# Altium schematic symbol library Connectors.SchLib: 47 symbols
Pins are listed as number, name and electrical type; pins without a type are passive.

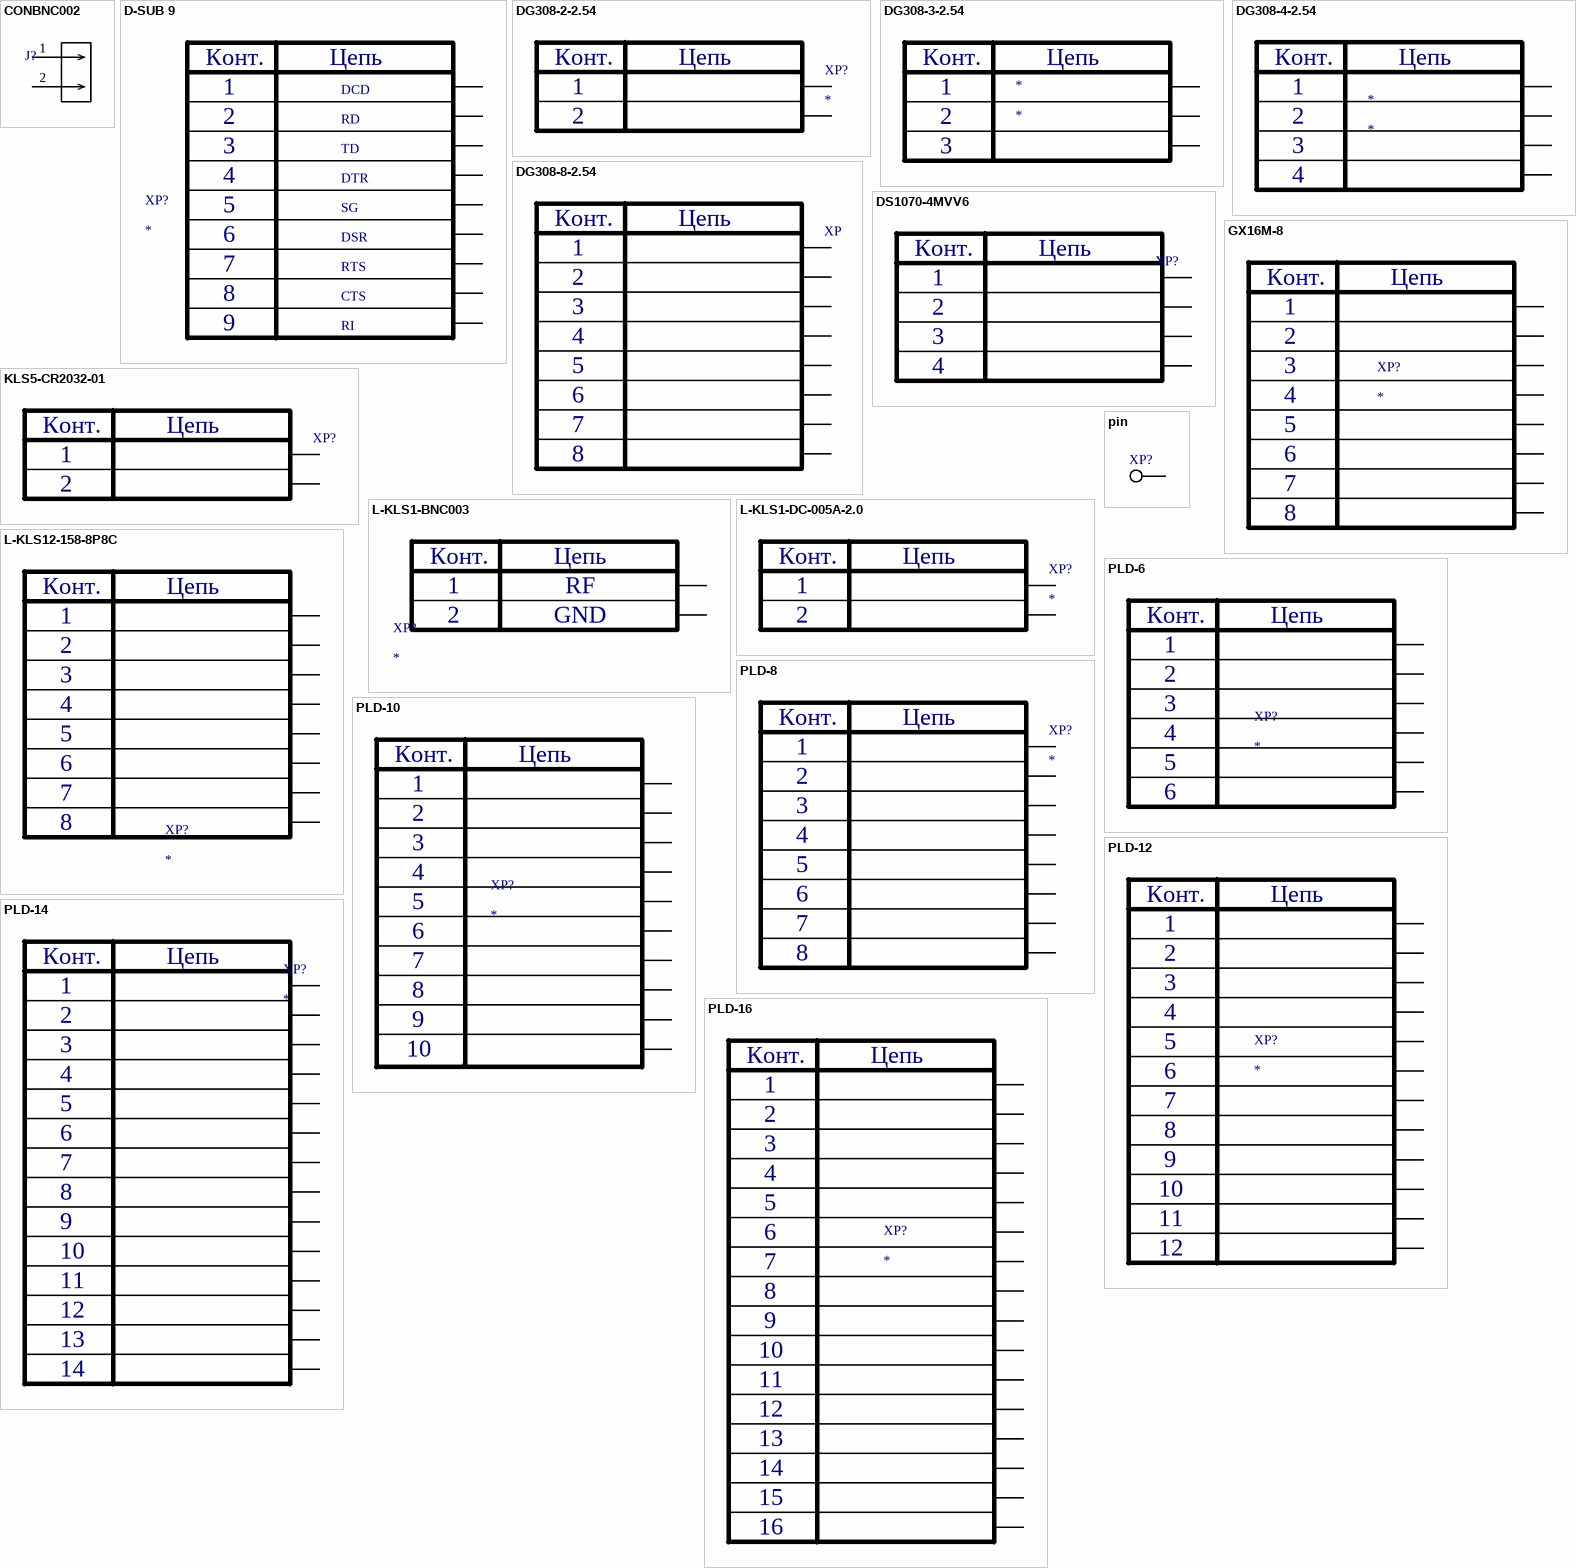
[diagram p0: symbols CONBNC002 to PLD-16]

## CONBNC002
designator J?
footprint CONBNC002
pins: 1, 2

## D-SUB 9
designator XP?
Разъем D-SUB на 9 пинов
footprint DRB-9 (Разъем под D-SUB на 9 пинов угловой)
footprint DBB-9 (Разъем под D-SUB на 9 пинов прямой)
pins: 1, 2, 3, 4, 5 6, 6 2, 7 3, 8 4, 9 4
text: Конт.; Цепь; DCD; RD; TD; DTR; SG; DSR; RTS; CTS; RI

## DG308-2-2.54
designator XP?
footprint DG308-2-2.54
pins: 1, 2
text: Конт.; Цепь

## DG308-3-2.54
designator *
pins: 1, 2, 3
text: Конт.; Цепь

## DG308-4-2.54
designator *
pins: 1, 2, 3, 4
text: Конт.; Цепь

## DG308-8-2.54
designator XP  (value not drawn)
footprint DG308-8-2.54
pins: 1, 2, 3, 4, 5 6, 6 2, 7 3, 8 4
text: Конт.; Цепь

## DS1070-4MVV6
designator XP?  (value not drawn)
footprint DS1070-4MVV6
pins: 1, 2, 3, 4
text: Конт.; Цепь

## GX16M-8
designator XP?
footprint GX16M-8
pins: 1, 2, 3, 4, 5 6, 6 2, 7 3, 8 4
text: Конт.; Цепь

## KLS5-CR2032-01
designator XP?  (value not drawn)
footprint KLS5-CR2032-01
pins: 1, 2
text: Конт.; Цепь

## L-KLS1-BNC003
designator XP?
footprint L-KLS1-BNC003
pins: 1, 2
text: Конт.; Цепь; RF; GND

## L-KLS1-DC-005A-2.0
designator XP?
footprint L-KLS1-DC-005A-2.0
pins: 1, 2
text: Конт.; Цепь

## L-KLS12-158-8P8C
designator XP?
footprint L-KLS12-158-8P8C
pins: 1, 2, 3, 4, 5 6, 6 2, 7 3, 8 4
text: Конт.; Цепь

## pin
designator XP?  (value not drawn)
footprint pin0,6
footprint PlaneTop 2x2
footprint pin1,0
footprint pin2,0
footprint wide_planetop_1mm
footprint Pin
pins: 1

## PLD-6
designator XP?
footprint PLD-6
pins: 1, 2, 3, 4, 5 6, 6 2
text: Конт.; Цепь

## PLD-8
designator XP?
footprint PLD-8
pins: 1, 2, 3, 4, 5 6, 6 2, 7 3, 8 4
text: Конт.; Цепь

## PLD-10
designator XP?
footprint PLD-10
pins: 1, 2, 3, 4, 5, 6 2, 7 3, 8 3, 9 3, 10 3
text: Конт.; Цепь

## PLD-12
designator XP?
footprint PLD-12
pins: 1, 2, 3, 4, 5, 6 2, 7 3, 8 3, 9 3, 10 3, 11 3, 12 3
text: Конт.; Цепь

## PLD-14
designator XP?
Order: *
footprint PLD14
pins: 1, 2, 3, 4, 5 6, 6 2, 7 3, 8 4, 9 1, 10 2, 11 3, 12 4, 13 1, 14 2
text: Конт.; Цепь

## PLD-16
designator XP?
footprint PLD-16
pins: 1, 2, 3, 4, 5, 6 2, 7 3, 8 3, 9 3, 10 3, 11 3, 12 3, 13 3, 14 3, 15 3, 16 3
text: Конт.; Цепь

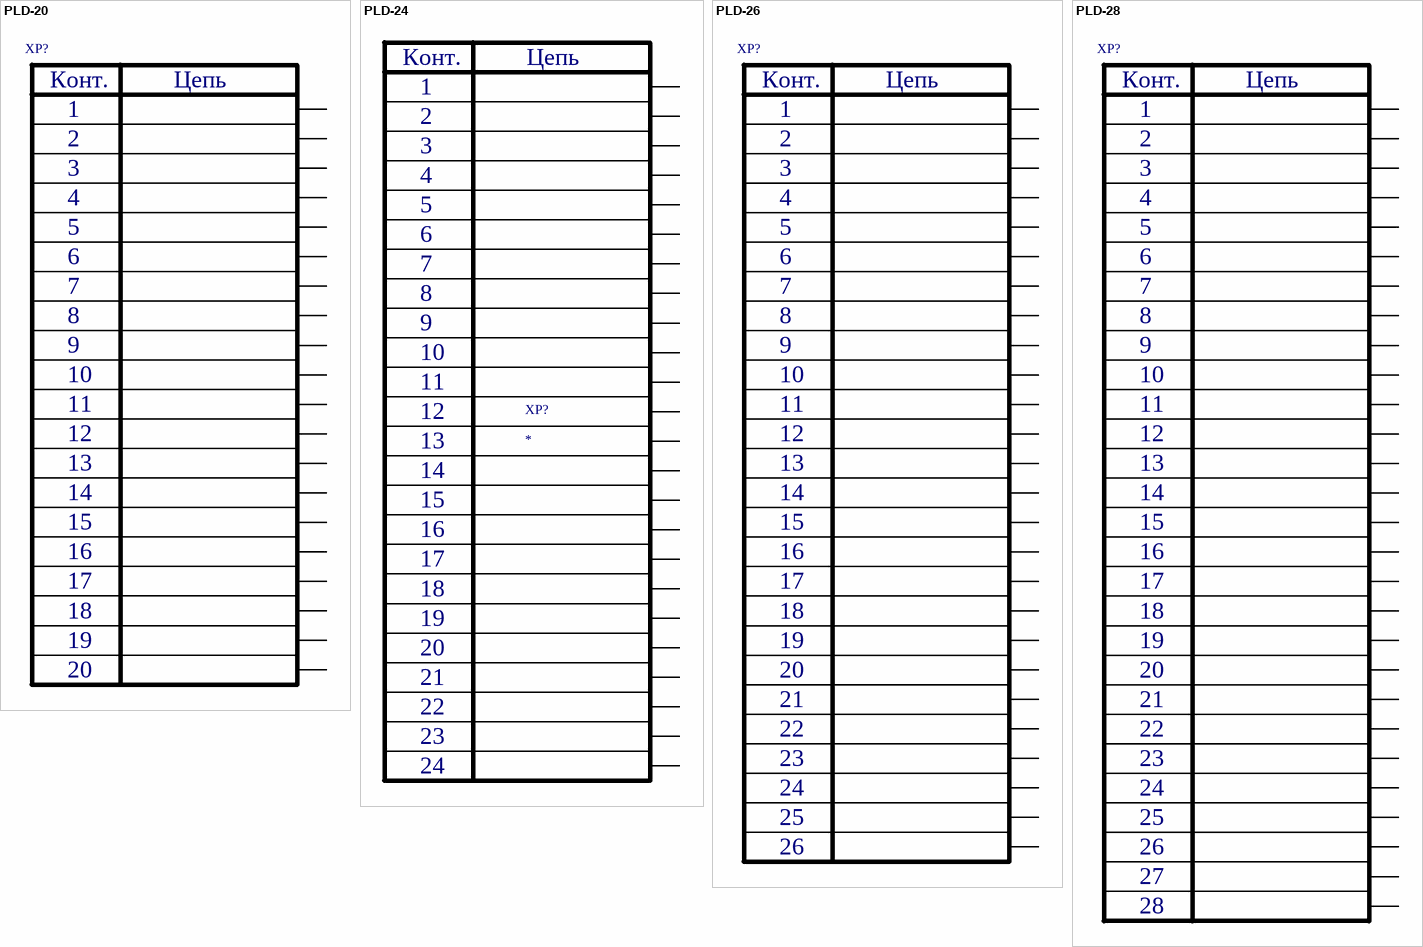
[diagram p1: symbols PLD-20 to PLD-28]

## PLD-20
designator XP?  (value not drawn)
Order: PLD-20
footprint PLD-20
pins: 1, 2, 3, 4, 5 6, 6 2, 7 3, 8 4, 9 1, 10 2, 11 3, 12 4, 13 1, 14 2, 15 3, 16 4, 17 1, 18 2, 19 3, 20 4
text: Конт.; Цепь

## PLD-24
designator XP?
footprint PLD-24
pins: 1, 2, 3, 4, 5 6, 6 2, 7 3, 8 4, 9 1, 10 2, 11 3, 12 4, 13 1, 14 2, 15 3, 16 4, 17 1, 18 2, 19 3, 20 4, 21 4, 22 4, 23 4, 24 4
text: Конт.; Цепь

## PLD-26
designator XP?  (value not drawn)
Order: PLD-20
footprint PLD-26
pins: 1, 2, 3, 4, 5 6, 6 2, 7 3, 8 4, 9 1, 10 2, 11 3, 12 4, 13 1, 14 2, 15 3, 16 4, 17 1, 18 2, 19 3, 20 4, 21 4, 22 4, 23 4, 24 4, 25 4, 26 4
text: Конт.; Цепь

## PLD-28
designator XP?  (value not drawn)
Order: PLD-20
footprint PLD-20
pins: 1, 2, 3, 4, 5 6, 6 2, 7 3, 8 4, 9 1, 10 2, 11 3, 12 4, 13 1, 14 2, 15 3, 16 4, 17 1, 18 2, 19 3, 20 4, 20 4, 20 4, 20 4, 20 4, 20 4, 20 4, 20 4, 20 4
text: Конт.; Цепь; 21; 22; 23; 24; 25; 26; 27; 28

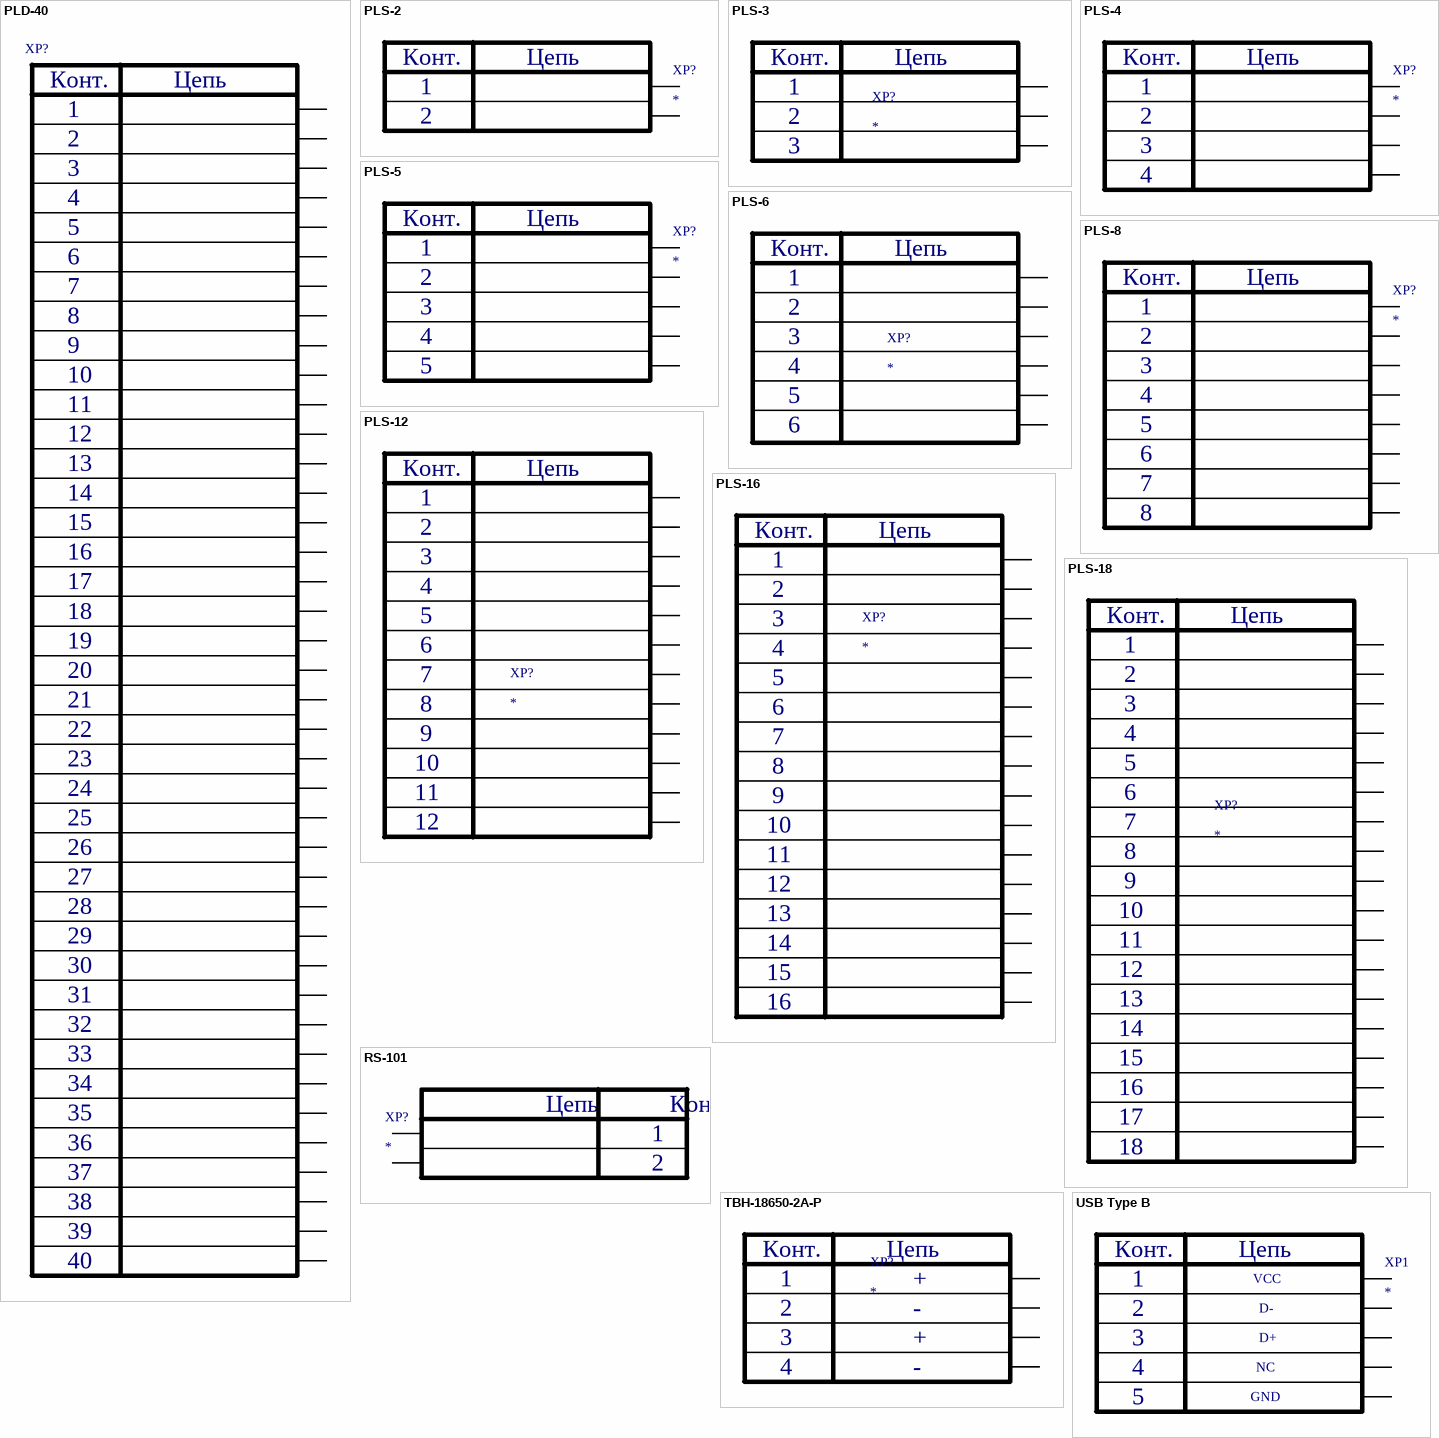
[diagram p2: symbols PLD-40 to USB Type B]

## PLD-40
designator XP?  (value not drawn)
Order: PLD-20
footprint PLD-40
pins: 1, 2, 3, 4, 5, 6, 7, 8, 9, 10, 11, 12, 13, 14, 15, 16, 17, 18, 19, 20, 21, 22, 23, 24, 25, 26, 27, 28, 29, 30, 31, 32, 33, 34, 35, 36, 37, 38, 39, 40
text: Конт.; Цепь

## PLS-2
designator XP?
footprint PLS-2
pins: 1, 2
text: Конт.; Цепь

## PLS-3
designator XP?
pins: 1, 2, 3
text: Конт.; Цепь

## PLS-4
designator XP?
footprint PLS-4
pins: 1, 2, 3, 4
text: Конт.; Цепь

## PLS-5
designator XP?
footprint PLS-5
pins: 1, 2, 3, 4, 5
text: Конт.; Цепь

## PLS-6
designator XP?
footprint PLS-6
pins: 1, 2, 3, 4, 5 6, 6 2
text: Конт.; Цепь

## PLS-8
designator XP?
footprint PLS-8
pins: 1, 2, 3, 4, 5 6, 6 2, 7 3, 8 3
text: Конт.; Цепь

## PLS-12
designator XP?
footprint PLS-12
pins: 1, 2, 3, 4, 5, 6 2, 7 3, 8 3, 9 3, 10 3, 11 3, 12 3
text: Конт.; Цепь

## PLS-16
designator XP?
footprint PLS-16
pins: 1, 2, 3, 4, 5, 6 2, 7 3, 8 3, 9 3, 10 3, 11 3, 12 3, 13 3, 14 3, 15 3, 16 3
text: Конт.; Цепь

## PLS-18
designator XP?
footprint PLS-18
pins: 1, 2, 3, 4, 5, 6 2, 7 3, 8 3, 9 3, 10 3, 11 3, 12 3, 13 3, 14 3, 15 3, 16 3, 17 3, 18 3
text: Конт.; Цепь

## RS-101
designator XP?
footprint RS-101
pins: 1, 2
text: Цепь; Конт.

## TBH-18650-2A-P
designator XP?
Батарейный отсек под две батареи 18650
footprint TBH-18650-2A-P (Батарейный отсек под две батареи 18650)
pins: 1, 2, 3 +, 4
text: Конт.; Цепь; -

## USB Type B
designator XP1
footprint KLS1-233-0-0-1-T
pins: 1, 2, 3, 4, 5
text: Конт.; Цепь; VCC; D-; D+; NC; GND

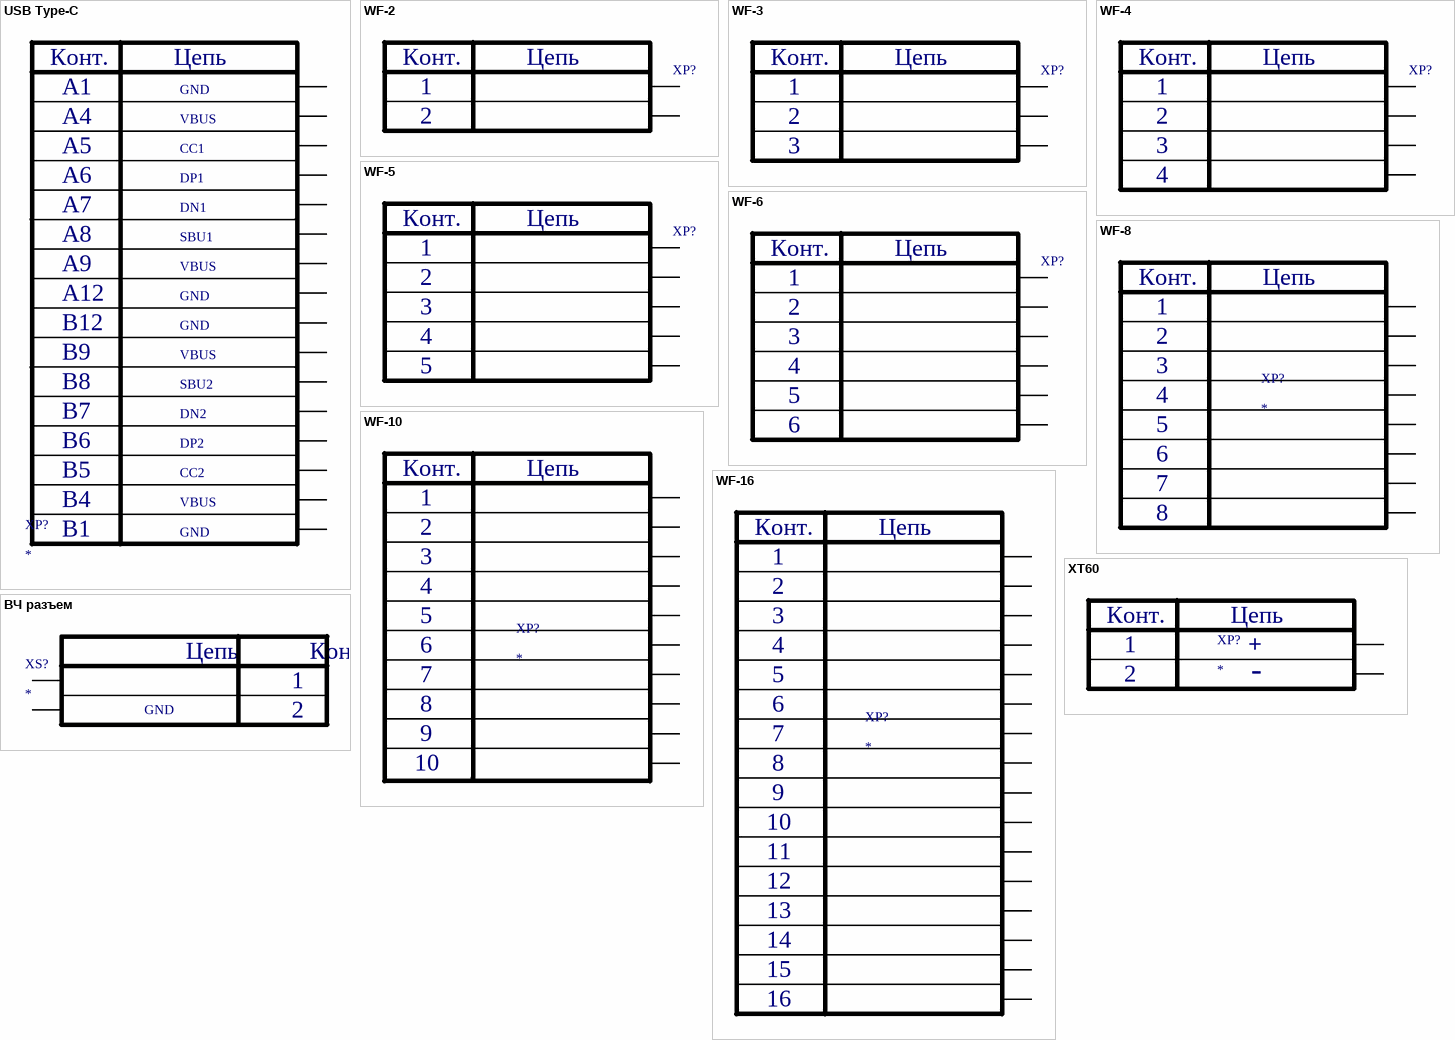
[diagram p3: symbols USB Type-C to ВЧ разъем]

## USB Type-C
designator XP?
TYPE-C-31-M-12
footprint USB Type-C (TYPE-C-31-M-12)
pins: A1/B12 A1, A1/B12 B12, A4/B9 A4, A4/B9 B9, A5, A6, A7, A8, B1/A12 A12, B1/A12 B1, B4/A9 A9, B4/A9 B4, B5, B6, B7, B8
text: Конт.; Цепь; GND; VBUS; CC1; DP1; DN1; SBU1; SBU2; DN2; DP2; CC2

## WF-2
designator XP?  (value not drawn)
footprint WF-2 Gorizont
footprint WF-2 Vertical
pins: 1, 2
text: Конт.; Цепь

## WF-3
designator XP?  (value not drawn)
footprint WF-3 Gorizont
footprint WF-3 Vertical
pins: 1, 2, 3
text: Конт.; Цепь

## WF-4
designator XP?  (value not drawn)
footprint WF-4 Gorizont
footprint WF-4 Vertical
pins: 1, 2, 3, 4
text: Конт.; Цепь

## WF-5
designator XP?  (value not drawn)
footprint WF-5 Gorizont
footprint WF-5 Vertical
pins: 1, 2, 3, 4, 5
text: Конт.; Цепь

## WF-6
designator XP?  (value not drawn)
footprint WF-6 Gorizont
footprint WF-6 Vertical
pins: 1, 2, 3, 4, 5, 6
text: Конт.; Цепь

## WF-8
designator XP?
footprint WF-8 Gorizont
footprint WF-8 Vertical
footprint WF-8R Vertical
pins: 1, 2, 3, 4, 5 6, 6 2, 7 3, 8 4
text: Конт.; Цепь

## WF-10
designator XP?
footprint WF-10 VERTICAL
pins: 1, 2, 3, 4, 5, 6 2, 7 3, 8 3, 9 3, 10 3
text: Конт.; Цепь

## WF-16
designator XP?
footprint WF-16 gorizont
pins: 1, 2, 3, 4, 5, 6 2, 7 3, 8 3, 9 3, 10 3, 11 3, 12 3, 13 3, 14 3, 15 3, 16 3
text: Конт.; Цепь

## XT60
designator XP?
footprint XT60
pins: 1, 2
text: Конт.; Цепь; +; -

## ВЧ разъем
designator XS?
footprint SMA_Vert_C
footprint SMA_Vert
footprint U.FL-R-SMT-1(80)-RH
footprint SMA-gorizont
footprint SMA-J
footprint U.FL-R-SMT-1(80)-RH
footprint SMA_VERT_0/5
pins: 1, 2
text: Цепь; Конт.; GND